# Altium schematic symbol library ERA-3EEB2212V.SchLib: 1 symbol
Pins are listed as number, name and electrical type; pins without a type are passive.

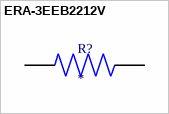
[diagram p0: symbol ERA-3EEB2212V]

## ERA-3EEB2212V
designator R?
MF: {'manufacturer': u'Panasonic'}; MP: ERA-3EEB2212V; Package: None; Price: None; Value: *; Availability: Unavailable
footprint RESC1608X55N
pins: 1, 2